# Altium footprint library Clocked LED_PcbLib1.PcbLib: 3 footprints
Each footprint in its own frame and in the unit in brackets; x right, y up, seen from the top. Pads: shape width x height; smd on the part's side, far side on the other; paste and mask are expansions set on the pad; w line width, h text height; cw(c..) or ccw(c..) is an arc to the next point about the centre after c.
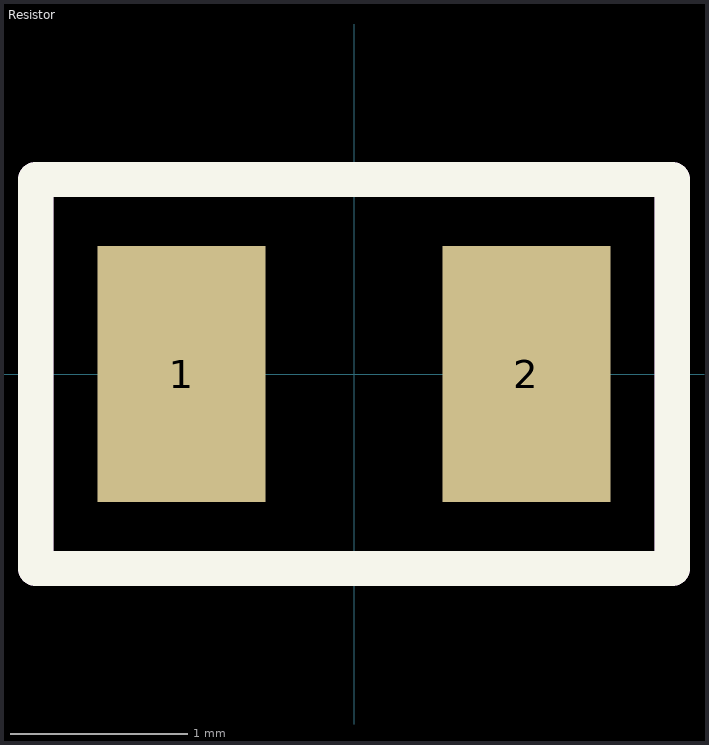
[diagram p0: the footprints below, top view; thin cyan lines are the x and y axes]

## PCBComponent_1 [mm]

## R0805 [mm]

## Resistor [mm]
pads (2):
  rect 0.95x1.45 smd: 1(-0.975,0) 2(0.975,0)
Top Overlay:
  lines w0.2: -1.8,-1.1 1.8,-1.1 1.8,1.1 -1.8,1.1 -1.8,-1.1
Top Assembly:
  lines w0.2: -1.8,-1.1 1.8,-1.1 1.8,1.1 -1.8,1.1 -1.8,-1.1
  text ".Designator" at -3.499,-0.267 h0.7
3D body "CRCW0805360RFKEA.STEP": height 0.51, standoff 0.01, extent -1,-0.6 1,0.65